# EAGLE library part MICRO_SPS_PIC (library e-sps)
Micro SPS mit PIC Prozessor www.kanis.de
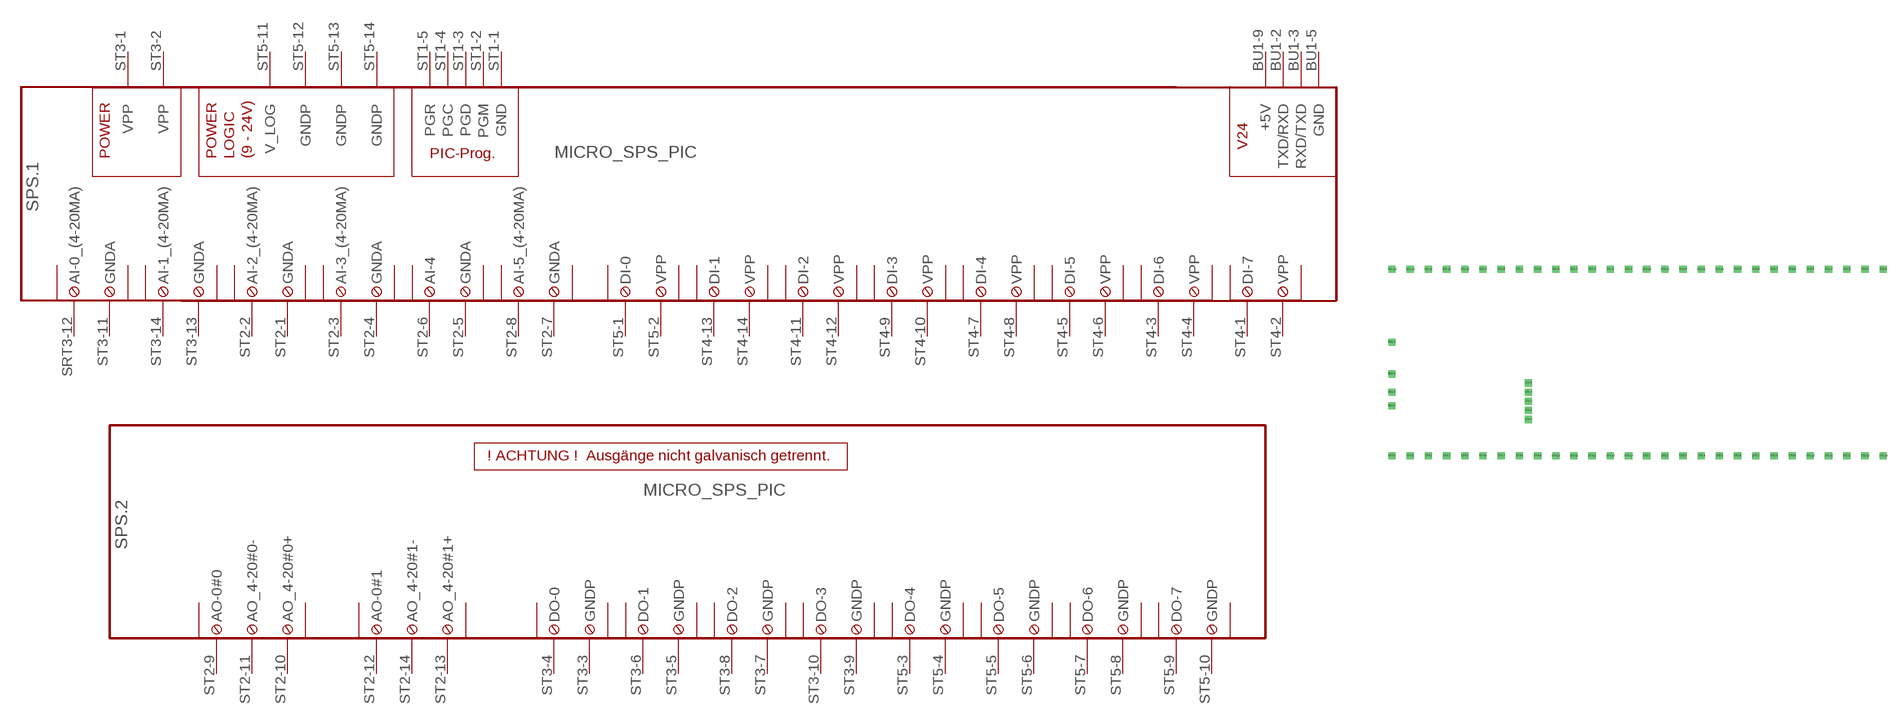
[diagram p1: symbol with the pads of MICRO_SPS_PIC; footprint MICRO_SPS_PIC]

Designator prefix SPS; gates .1=SPS_RAHMEN_LU RLO=SPS_RAHMEN_LO RRO=SPS_RAHMEN_RO RRU=SPS_RAHMEN_RU PIC_PGM=SPS_PIC_PROG AN0=SPS_EINGANG_ANALOG0_GND AN1=SPS_EINGANG_ANALOG1_GND AN2=SPS_EINGANG_ANALOG2_GND AN3=SPS_EINGANG_ANALOG3_GND AN4=SPS_EINGANG_ANALOG4_GND AN5=SPS_EINGANG_ANALOG5_GND .2=SPS_RAHMEN_LU R2LO=SPS_RAHMEN_LO R2RO=SPS_RAHMEN_RO R2RU=SPS_RAHMEN_RU DI0=SPS_EINGANG_DIGITAL0_VPP DI1=SPS_EINGANG_DIGITAL1_VPP DI2=SPS_EINGANG_DIGITAL2_VPP DI3=SPS_EINGANG_DIGITAL3_VPP DI4=SPS_EINGANG_DIGITAL4_VPP DI5=SPS_EINGANG_DIGITAL5_VPP DI6=SPS_EINGANG_DIGITAL6_VPP DI7=SPS_EINGANG_DIGITAL7_VPP AO0=SPS_AUSGANG_ANALOG0 DO0=SPS_AUSGANG_DIGITAL0_GNDP DO1=SPS_AUSGANG_DIGITAL1_GNDP DO2=SPS_AUSGANG_DIGITAL2_GNDP DO3=SPS_AUSGANG_DIGITAL3_GNDP DO4=SPS_AUSGANG_DIGITAL4_GNDP DO5=SPS_AUSGANG_DIGITAL5_GNDP DO6=SPS_AUSGANG_DIGITAL6_GNDP DO7=SPS_AUSGANG_DIGITAL7_GNDP DO9=SPS_PIC_PWR_LOGIC AO1=SPS_AUSGANG_ANALOG1 PWRVIN=SPS_PIC_PWR_VIN V24=SPS_PIC_V24 INFO2=SPS_PIC_INFO

## MICRO_SPS_PIC  [MICRO_SPS_PIC]
BU1-2  V24:TXD/RXD  pas
BU1-3  V24:RXD/TXD  pas
BU1-5  V24:GND  pas
BU1-9  V24:+5V  pas
SRT3-12  AN0:AI-0_(4-20MA)  pas
ST1-1  PIC_PGM:GND  pas
ST1-2  PIC_PGM:PGM  pas
ST1-3  PIC_PGM:PGD  pas
ST1-4  PIC_PGM:PGC  pas
ST1-5  PIC_PGM:PGR  pas
ST2-1  AN2:GNDA  pas
ST2-2  AN2:AI-2_(4-20MA)  pas
ST2-3  AN3:AI-3_(4-20MA)  pas
ST2-4  AN3:GNDA  pas
ST2-5  AN4:GNDA  pas
ST2-6  AN4:AI-4  pas
ST2-7  AN5:GNDA  pas
ST2-8  AN5:AI-5_(4-20MA)  pas
ST2-9  AO0:AO-0#0  pas
ST2-10  AO0:AO_4-20#0+  pas
ST2-11  AO0:AO_4-20#0-  pas
ST2-12  AO1:AO-0#1  pas
ST2-13  AO1:AO_4-20#1+  pas
ST2-14  AO1:AO_4-20#1-  pas
ST3-1  PWRVIN:VPP  pas
ST3-2  PWRVIN:VPP  pas
ST3-3  DO0:GNDP  pas
ST3-4  DO0:DO-0  pas
ST3-5  DO1:GNDP  pas
ST3-6  DO1:DO-1  pas
ST3-7  DO2:GNDP  pas
ST3-8  DO2:DO-2  pas
ST3-9  DO3:GNDP  pas
ST3-10  DO3:DO-3  pas
ST3-11  AN0:GNDA  pas
ST3-13  AN1:GNDA  pas
ST3-14  AN1:AI-1_(4-20MA)  pas
ST4-1  DI7:DI-7  pas
ST4-2  DI7:VPP  pas
ST4-3  DI6:DI-6  pas
ST4-4  DI6:VPP  pas
ST4-5  DI5:DI-5  pas
ST4-6  DI5:VPP  pas
ST4-7  DI4:DI-4  pas
ST4-8  DI4:VPP  pas
ST4-9  DI3:DI-3  pas
ST4-10  DI3:VPP  pas
ST4-11  DI2:DI-2  pas
ST4-12  DI2:VPP  pas
ST4-13  DI1:DI-1  pas
ST4-14  DI1:VPP  pas
ST5-1  DI0:DI-0  pas
ST5-2  DI0:VPP  pas
ST5-3  DO4:DO-4  pas
ST5-4  DO4:GNDP  pas
ST5-5  DO5:DO-5  pas
ST5-6  DO5:GNDP  pas
ST5-7  DO6:DO-6  pas
ST5-8  DO6:GNDP  pas
ST5-9  DO7:DO-7  pas
ST5-10  DO7:GNDP  pas
ST5-11  DO9:V_LOG  pas
ST5-12  DO9:GNDP  pas
ST5-13  DO9:GNDP  pas
ST5-14  DO9:GNDP  pas

## Footprint MICRO_SPS_PIC (pad centres in mm)
Dummy
drill 0.5 pad 1 square: BU1-2 -48.895,-6.985; BU1-3 -48.895,-5.08; BU1-5 -48.895,-2.54; BU1-9 -48.895,1.905; SRT3-12 -8.255,12.065; ST1-1 -29.845,-8.89; ST1-2 -29.845,-7.62; ST1-3 -29.845,-6.35; ST1-4 -29.845,-5.08; ST1-5 -29.845,-3.81; ST2-1 -15.875,12.065; ST2-2 -18.415,12.065; ST2-3 -20.955,12.065; ST2-4 -23.495,12.065; ST2-5 -26.035,12.065; ST2-6 -28.575,12.065; ST2-7 -31.115,12.065; ST2-8 -33.655,12.065; ST2-9 -36.195,12.065; ST2-10 -38.735,12.065; ST2-11 -41.275,12.065; ST2-12 -43.815,12.065; ST2-13 -46.355,12.065; ST2-14 -48.895,12.065; ST3-1 19.685,12.065; ST3-2 17.145,12.065; ST3-3 14.605,12.065; ST3-4 12.065,12.065; ST3-5 9.525,12.065; ST3-6 6.985,12.065; ST3-7 4.445,12.065; ST3-8 1.905,12.065; ST3-9 -0.635,12.065; ST3-10 -3.175,12.065; ST3-11 -5.715,12.065; ST3-13 -10.795,12.065; ST3-14 -13.335,12.065; ST4-1 -48.895,-13.97; ST4-2 -46.355,-13.97; ST4-3 -43.815,-13.97; ST4-4 -41.275,-13.97; ST4-5 -38.735,-13.97; ST4-6 -36.195,-13.97; ST4-7 -33.655,-13.97; ST4-8 -31.115,-13.97; ST4-9 -28.575,-13.97; ST4-10 -26.035,-13.97; ST4-11 -23.495,-13.97; ST4-12 -20.955,-13.97; ST4-13 -18.415,-13.97; ST4-14 -15.875,-13.97; ST5-1 -13.335,-13.97; ST5-2 -10.795,-13.97; ST5-3 -8.255,-13.97; ST5-4 -5.715,-13.97; ST5-5 -3.175,-13.97; ST5-6 -0.635,-13.97; ST5-7 1.905,-13.97; ST5-8 4.445,-13.97; ST5-9 6.985,-13.97; ST5-10 9.525,-13.97; ST5-11 12.065,-13.97; ST5-12 14.605,-13.97; ST5-13 17.145,-13.97; ST5-14 19.685,-13.97